# Altium footprint library SMA.PcbLib: 5 footprints
Each footprint in its own frame and in the unit in brackets; x right, y up, seen from the top. Pads: shape width x height; smd on the part's side, far side on the other; paste and mask are expansions set on the pad; w line width, h text height; cw(c..) or ccw(c..) is an arc to the next point about the centre after c.
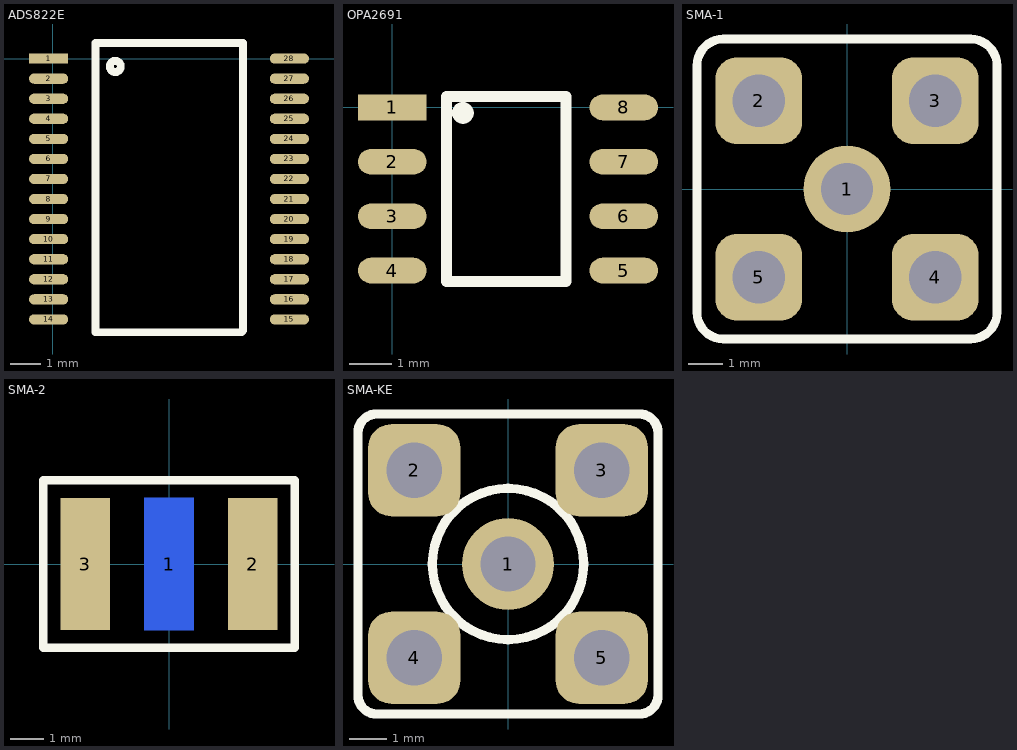
[diagram p0: the footprints below, top view; thin cyan lines are the x and y axes]

## ADS822E [mm]
pads (28):
  rect 1.27x0.33 smd: 1(-0.127,0)
  oval 1.27x0.33 smd: 2(-0.127,-0.65) 3(-0.127,-1.3) 4(-0.127,-1.95) 5(-0.127,-2.6) 6(-0.127,-3.25) 7(-0.127,-3.9) 8(-0.127,-4.55) 9(-0.127,-5.2) 10(-0.127,-5.85) 11(-0.127,-6.5) 12(-0.127,-7.15) 13(-0.127,-7.8) 14(-0.127,-8.45) 15(7.673,-8.45) 16(7.673,-7.8) 17(7.673,-7.15) 18(7.673,-6.5) 19(7.673,-5.85) 20(7.673,-5.2) 21(7.673,-4.55) 22(7.673,-3.9) 23(7.673,-3.25) 24(7.673,-2.6) 25(7.673,-1.95) 26(7.673,-1.3) 27(7.673,-0.65) 28(7.673,0)
Top Overlay:
  circle w0.254: c2.032,-0.254 r0.18
  lines w0.254: 3.048,0.508 6.164,0.508 6.172,0.5 6.172,-8.814 6.121,-8.865 1.397,-8.865 1.397,0.5 3.167,0.5 3.175,0.508

## OPA2691 [mm]
pads (8):
  rect 1.6x0.6 smd: 1(0,0)
  oval 1.6x0.6 smd: 2(0,-1.27) 3(0,-2.54) 4(0,-3.81) 5(5.41,-3.81) 6(5.41,-2.54) 7(5.41,-1.27) 8(5.41,0)
Top Overlay:
  circle w0.254: c1.651,-0.127 r0.127
  lines w0.254: 1.27,-4.064 4.064,-4.064 4.064,0.254 1.27,0.254 1.27,-4.064

## SMA-1 [mm]
pads (5):
  round 2.5 hole 1.5: 1(0,0)
  rrect50% 2.5x2.5 hole 1.5: 2(-2.54,2.54) 3(2.54,2.54) 4(2.54,-2.54) 5(-2.54,-2.54)
Top Overlay:
  lines w0.254: -4.318,-3.556 ccw(c-3.556,-3.556) -3.556,-4.318 3.556,-4.318 ccw(c3.556,-3.556) 4.318,-3.556 4.318,3.556 ccw(c3.556,3.556) 3.556,4.318 -3.556,4.318 ccw(c-3.556,3.556) -4.318,3.556 -4.318,-3.556
3D body: height 3.24, standoff -10.86, extent -3.556,-3.486 3.444,11.614

## SMA-2 [mm]
pads (3):
  rect 1.5x4 smd far side: 1(0,0)
  rect 1.5x4 all layers, no hole: 2(2.54,0) 3(-2.54,0)
Top Overlay:
  lines w0.254: -3.81,-2.54 -3.81,-2.286 -3.81,2.54 3.81,2.54 3.81,-2.54 -3.81,-2.54
3D body: height 3.2, standoff -2.85, extent -3,-11.886 3,1.714

## SMA-KE [mm]
pads (5):
  round 2.5 hole 1.5: 1(0,0)
  rrect50% 2.5x2.5 hole 1.5: 2(-2.54,2.54) 3(2.54,2.54) 4(-2.54,-2.54) 5(2.54,-2.54)
Top Overlay:
  circle w0.254: c0,0 r2.048
  lines w0.2: 4.064,-3.556 4.064,-3.556 ; 4.064,-3.556 4.064,-3.556
  lines w0.254: 3.556,4.064 cw(c3.556,3.556) 4.064,3.556 4.064,-3.556 cw(c3.556,-3.556) 3.556,-4.064 -3.556,-4.064 cw(c-3.556,-3.556) -4.064,-3.556 -4.064,3.556 cw(c-3.556,3.556) -3.556,4.064 3.556,4.064 ; 3.556,4.064 3.556,4.064
3D body: height 9.53, standoff -3.94, extent -3.5,-3.5 3.5,3.5